# EAGLE library part TPS5410_TPS5420 (library m-pad-2.1)
Ti's TPS5410 and TPS5420 1A or 2A, WIDE INPUT RANGE, STEP-DOWN SWIFT CONVERTER Description: As a member of the SWIFT family of DC/DC regulators, the TPS5410/TPS5420 is a high-output-current PWM converter that integrates a low resistance high side N-channel MOSFET. Included on the substrate with the listed features is a high performance voltage error amplifier that provides tight voltage regulation accuracy under transient conditions; an undervoltage-lockout circuit to prevent start-up until the input voltage reaches 5.5 V; an internally set slow-start circuit to prevent start-up until the input volatge feed-forward circuit to improve the transient response. Using the ENA pin, shutdown supply current is reduced to 18 mA typically. Other features include an active high enable, overcurrent protection and thermal shutdown. To reduce design complexity and external component count, the TPS5410 feedback loop is internally compensated. The TPS5410/TPS5420 device is available in an easy to use 8-pin SOIC package. TI provides evaluation modules and software tools to aid in quickly achieving high-performance power supply designs to meet aggressive equipment development cycles. Features: Wide Input Voltage Range: 5.5 V to 36 V Up to 1-A Continuous (1.2-A Peak) Output Current High Efficiency up to 95% Enabled by 110-mW Integrated MOSFET Switch Wide Output Voltage Range: Adjustable Down to 1.22 V with 1.5% Initial Accuracy Internal Compensation Minimizes External Parts Count Fixed 500-kHz Switching Frequency for Small Filter Size Improved Line Regulation and Transient Response by Input Voltage Feed Forward System Protected by Overcurrent Limiting and Thermal Shutdown -40°C to 125°C Operating Junction Temperature Range Available in Small 8-Pin SOIC Package Applications: Consumer: Set-top Box, DVD, LCD Displays Industrial and Car Audio Power Supplies Battery Chargers, High Power LED Supply 12-V/24-V Distributed Power Systems Please send any comments to: messi@users.sourceforge.net
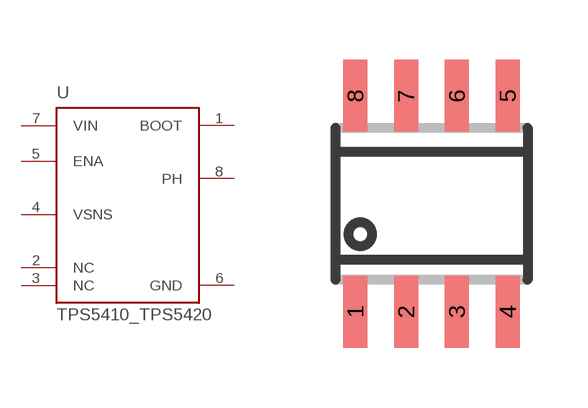
[diagram p187: symbol with the pads of SOIC8; footprint SOIC8]

Designator prefix U

## TPS5410_TPS5420D  [SOIC8]
1  BOOT  pas
2  NC  nc
3  NC  nc
4  VSNS  pas
5  ENA  in
6  GND  pwr
7  VIN  pwr
8  PH  pas

## Footprint SOIC8 (pad centres in mm)
Small Outline IC
smd 0.6 x 1.8: 1 -1.905,-2.7; 2 -0.635,-2.7; 3 0.635,-2.7; 4 1.905,-2.7; 5 1.905,2.7; 6 0.635,2.7; 7 -0.635,2.7; 8 -1.905,2.7